# EAGLE library part 08-JST (library con-jst-xh)
JST CONNECTOR
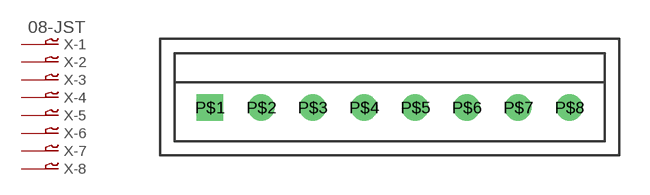
[diagram p1: symbol with the pads of B8B-XH; footprint B8B-XH]

Designator prefix X; gates -1=P-VN -2=P-N -3=P-N -4=P-N -5=P-N -6=P-N -7=P-N -8=P-N

## 08-JST-B8B-XH-A  [B8B-XH]
P$1  -1:1  pas
P$2  -2:1  pas
P$3  -3:1  pas
P$4  -4:1  pas
P$5  -5:1  pas
P$6  -6:1  pas
P$7  -7:1  pas
P$8  -8:1  pas

## Footprint B8B-XH (pad centres in mm)
JST XH Connector JST 2.54mm connector. Folded beam contact, box-shaped shrouded header, header with a boss, interchangeability, conformance to the HA terminal Datasheet: eXH.pdf <http://www.jst-mfg.com/product/pdf/eng/eXH.pdf>
drill 0.8 square: P$1 -8.89,0
drill 0.8: P$2 -6.35,0; P$3 -3.81,0; P$4 -1.27,0; P$5 1.27,0; P$6 3.81,0; P$7 6.35,0; P$8 8.89,0